# Altium footprint library HSOP6J.PcbLib: 1 footprints
Each footprint in its own frame and in the unit in brackets; x right, y up, seen from the top. Pads: shape width x height; smd on the part's side, far side on the other; paste and mask are expansions set on the pad; w line width, h text height; cw(c..) or ccw(c..) is an arc to the next point about the centre after c.
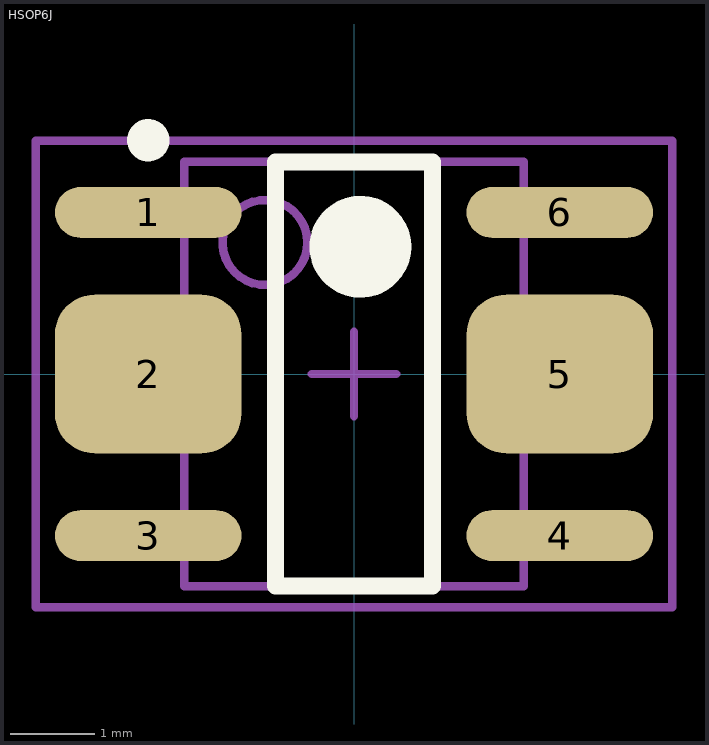
[diagram p0: the footprint, top view; thin cyan lines are the x and y axes]

## HSOP6J [mm] "HSOP, 6-Leads, Body 5x6x1.5mm, Pitch 1,905mm, IPC Medium Density"
height 1.7
pads (6):
  oval 2.2x0.6 smd: 1(-2.425,1.905) 3(-2.425,-1.905) 4(2.425,-1.905) 6(2.425,1.905)
  rrect50% 2.2x1.87 smd: 2(-2.425,0) 5(2.425,0)
Top Overlay:
  circle w0.6: c0.075,1.5 r0.3
  circle w0.25: c-2.425,2.755 r0.125
  lines w0.2: -0.925,-2.5 0.925,-2.5 0.925,2.5 -0.925,2.5 -0.925,-2.5
Mechanical 13:
  circle w0.1: c-1.05,1.55 r0.5
  lines w0.1: -2,-2.5 2,-2.5 2,2.5 -2,2.5 -2,-2.5
Mechanical 15:
  lines w0.1: -0.5,0 0.5,0 ; 0,-0.5 0,0.5 ; -3.75,-2.75 3.75,-2.75 3.75,2.75 -3.75,2.75 -3.75,-2.75
3D body "HSOP-6J.step": height 1.65, standoff 0, extent -2.974,-2.51 3.025,2.51